# Altium schematic symbol library castellated Hole.SchLib: 1 symbol
Pins are listed as number, name and electrical type; pins without a type are passive.

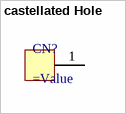
[diagram p0: symbol castellated Hole]

## castellated Hole
designator CN?
=Description
pins: 1